# Altium schematic symbol library 08051A500GAT2A.SchLib: 1 symbol
Pins are listed as number, name and electrical type; pins without a type are passive.

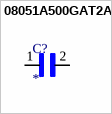
[diagram p0: symbol 08051A500GAT2A]

## 08051A500GAT2A
designator C?
Cap Ceramic 50pF 100V C0G 2% SMD 0805 125Â°C T/R; MP: 08051A500GAT2A; Package: None; Price: None; Value: *; Availability: Unavailable
footprint CAPC2012X94N
pins: 1, 2